# Altium schematic symbol library PWR1014A-TQFP48.SchLib: 1 symbol
Pins are listed as number, name and electrical type; pins without a type are passive.

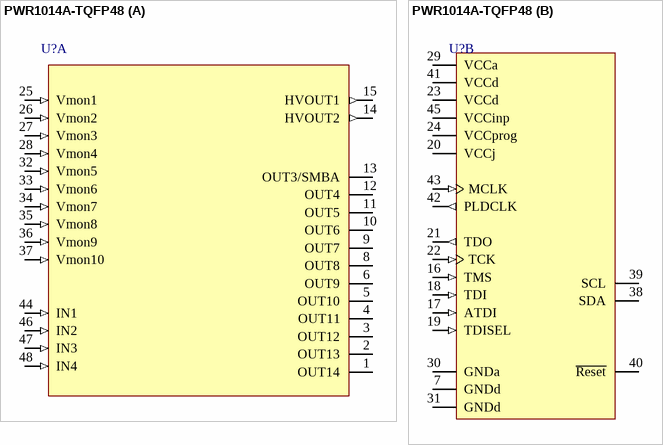
[diagram p0: symbol PWR1014A-TQFP48]

## PWR1014A-TQFP48
designator U?  (value not drawn)
part A pins: 1 OUT14 (oc), 2 OUT13 (oc), 3 OUT12 (oc), 4 OUT11 (oc), 5 OUT10 (oc), 6 OUT9 (oc), 8 OUT8 (oc), 9 OUT7 (oc), 10 OUT6 (oc), 11 OUT5 (oc), 12 OUT4 (oc), 13 OUT3/SMBA (oc), 14 HVOUT2 (out), 15 HVOUT1 (out), 25 Vmon1 (in), 26 Vmon2 (in), 27 Vmon3 (in), 28 Vmon4 (in), 32 Vmon5 (in), 33 Vmon6 (in), 34 Vmon7 (in), 35 Vmon8 (in), 36 Vmon9 (in), 37 Vmon10 (in), 44 IN1 (in), 46 IN2 (in), 47 IN3 (in), 48 IN4 (in)
part B pins: 7 GNDd (power), 16 TMS (in), 17 ATDI (in), 18 TDI (in), 19 TDISEL (in), 20 VCCj (power), 21 TDO (out), 22 TCK (in), 23 VCCd (power), 24 VCCprog (power), 29 VCCa (power), 30 GNDa (power), 31 GNDd (power), 38 SDA, 39 SCL, 40 ~{Reset}, 41 VCCd (power), 42 PLDCLK (out), 43 MCLK (in), 45 VCCinp (power)